# Altium schematic symbol library TBLOCK.SchLib: 1 symbol
Pins are listed as number, name and electrical type; pins without a type are passive.

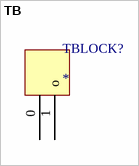
[diagram p0: symbol TB]

## TB
designator TBLOCK?
TB
footprint PCBComponent_1
pins: 0, 1 o